# EAGLE library part LTC2872 (library platypus)
RS232/RS485 Dual Multiprotocol Transceiver with Integrated Termination Robust pin-configurable transceiver that supports RS232, RS485, and RS422 standards while operating on a single 3V to 5.5V supply.
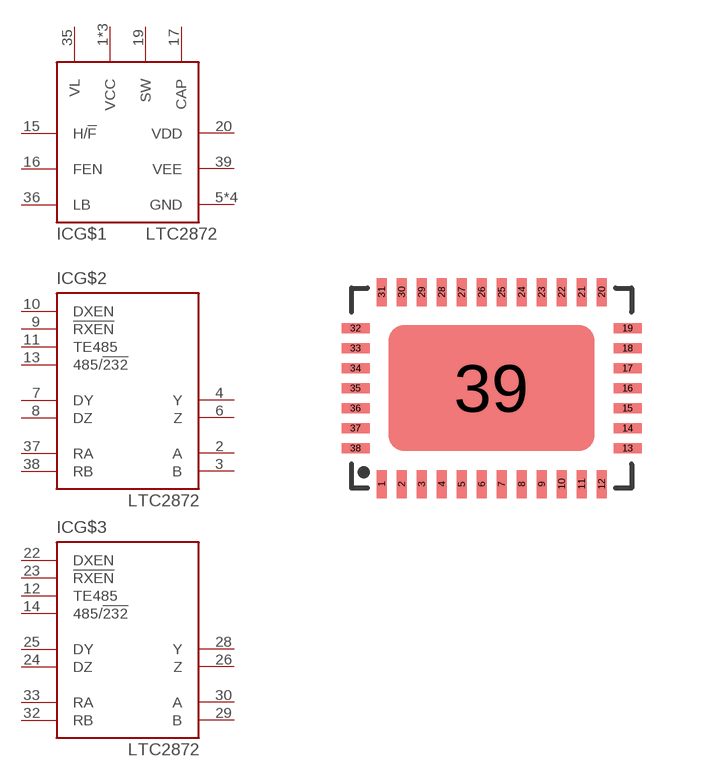
[diagram p2: symbol with the pads of LTC-UHF; footprint LTC-UHF]

Designator prefix IC; gates G$1=LTC2872_PWR G$2=LTC2872_XCV G$3=LTC2872_XCV

## LTC2872 (MF: Linear; MPN: LTC2872)  [LTC-UHF]
1  G$1:VCC  pwr
2  G$2:A  in
3  G$2:B  in
4  G$2:Y  out
5  G$1:GND  pwr
6  G$2:Z  out
7  G$2:DY  in
8  G$2:DZ  in
9  G$2:!RXEN  in
10  G$2:DXEN  in
11  G$2:TE485  in
12  G$3:TE485  in
13  G$2:485/!232  in
14  G$3:485/!232  in
15  G$1:H/!F  in
16  G$1:FEN  in
17  G$1:CAP  pas
18  G$1:GND  pwr
19  G$1:SW  pas
20  G$1:VDD  out
21  G$1:VCC  pwr
22  G$3:DXEN  in
23  G$3:!RXEN  in
24  G$3:DZ  in
25  G$3:DY  in
26  G$3:Z  out
27  G$1:GND  pwr
28  G$3:Y  out
29  G$3:B  in
30  G$3:A  in
31  G$1:VCC  pwr
32  G$3:RB  out
33  G$3:RA  out
34  G$1:GND  pwr
35  G$1:VL  pas
36  G$1:LB  in
37  G$2:RA  out
38  G$2:RB  out
39  G$1:VEE  out

## Footprint LTC-UHF (pad centres in mm)
UHF Package 38-Lead Plastic QFN (5mm × 7mm) (Reference LTC DWG # 05-08-1701 Rev C)
smd 0.25 x 0.7: 1 -2.75,-2.4; 2 -2.25,-2.4; 3 -1.75,-2.4; 4 -1.25,-2.4; 5 -0.75,-2.4; 6 -0.25,-2.4; 7 0.25,-2.4; 8 0.75,-2.4; 9 1.25,-2.4; 10 1.75,-2.4; 11 2.25,-2.4; 12 2.75,-2.4; 20 2.75,2.4; 21 2.25,2.4; 22 1.75,2.4; 23 1.25,2.4; 24 0.75,2.4; 25 0.25,2.4; 26 -0.25,2.4; 27 -0.75,2.4; 28 -1.25,2.4; 29 -1.75,2.4; 30 -2.25,2.4; 31 -2.75,2.4
smd 0.7 x 0.25: 13 3.4,-1.5; 14 3.4,-1; 15 3.4,-0.5; 16 3.4,0; 17 3.4,0.5; 18 3.4,1; 19 3.4,1.5; 32 -3.4,1.5; 33 -3.4,1; 34 -3.4,0.5; 35 -3.4,0; 36 -3.4,-0.5; 37 -3.4,-1; 38 -3.4,-1.5
smd 5.15 x 3.15: 39 0,0